# EAGLE library part LT3573 (library PowerProducts)
LT-Spice library generated with : ltspice.ulp from: E:/Programme/LTC/LTspiceIV/lib/sym/PowerProducts/LT3574*.asy at 05.10.2012 12:31:18
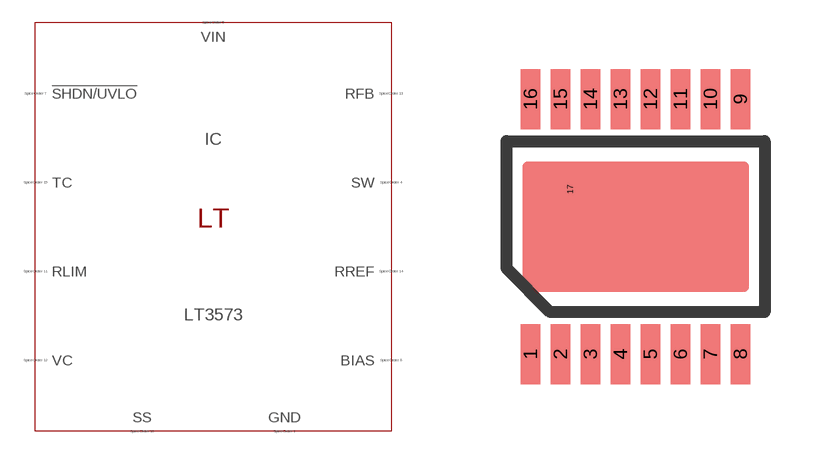
[diagram p74: symbol with the pads of MSOP16(MSE); footprint MSOP16(MSE)]

Designator prefix IC

## LT3573 (SPICEMODEL: LT3573.sub; SPICEPREFIX: X; VALUE2: LT3573)  [MSOP16(MSE)]
1  GND  pas
2  GND  pas
3  GND  pas
4  SW  pas
5  VIN  pas
6  BIAS  pas
7  !SHDN/UVLO  pas
8  GND  pas
9  GND  pas
10  SS  pas
11  RLIM  pas
12  VC  pas
13  RFB  pas
14  RREF  pas
15  TC  pas
16  GND  pas
17  GND  pas

## Footprint MSOP16(MSE) (pad centres in mm)
Package generated from: MSOP16(MSE).asc (!PADS-POWERPCB-V9.3-BASIC! DESIGN DATABASE ASCII FILE 1.0) with :import-pads-powerpcb-v5.ulp Version 1.0.1 at 04.10.2012 14:11:19
smd 0.495 x 1.5: 1 -2.625,-3.188; 2 -1.875,-3.188; 3 -1.125,-3.188; 4 -0.375,-3.188; 5 0.375,-3.188; 6 1.125,-3.188; 7 1.875,-3.188; 8 2.625,-3.188; 9 2.625,3.188; 10 1.875,3.188; 11 1.125,3.188; 12 0.375,3.188; 13 -0.375,3.188; 14 -1.125,3.188; 15 -1.875,3.188; 16 -2.625,3.188
smd 0 x 0.525: 17 -1.635,0.93